# Altium schematic symbol library SCH - MCU - INFINEON - INFINEON MB9BF567RBGL BGA-144.SchLib: 1 symbol
Pins are listed as number, name and electrical type; pins without a type are passive.

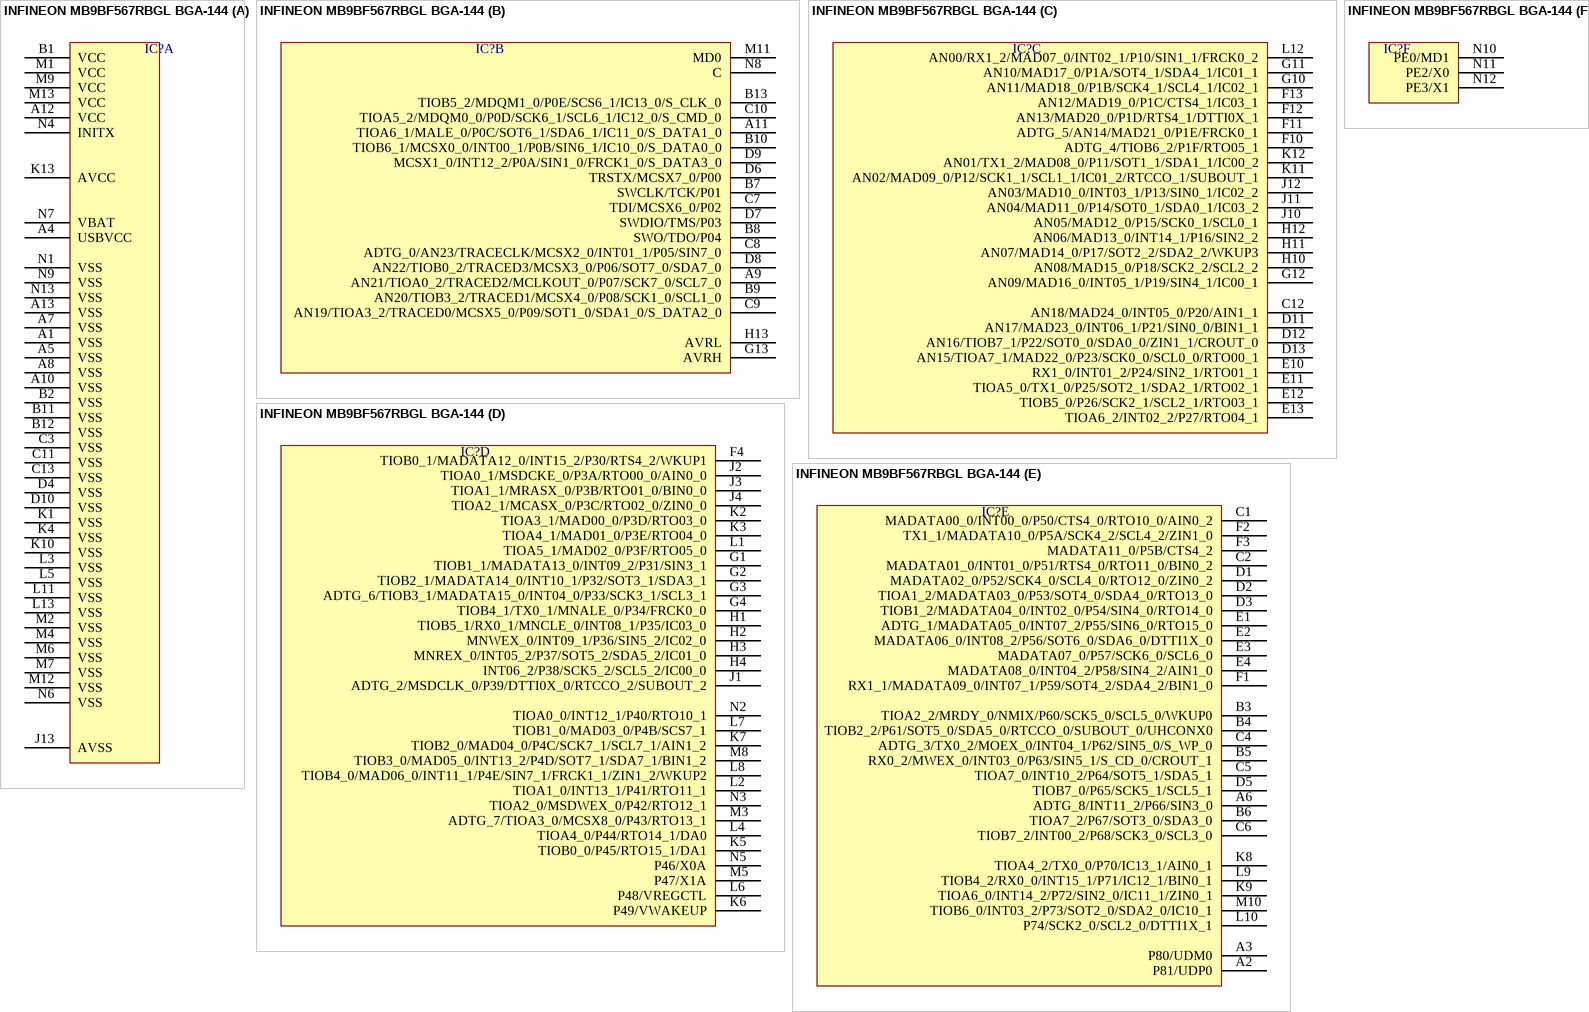
[diagram p0: symbol INFINEON MB9BF567RBGL BGA-144]

## INFINEON MB9BF567RBGL BGA-144
designator IC?  (value not drawn)
part A pins: A1 VSS, A4 USBVCC, A5 VSS, A7 VSS, A8 VSS, A10 VSS, A12 VCC, A13 VSS, B1 VCC, B2 VSS, B11 VSS, B12 VSS, C3 VSS, C11 VSS, C13 VSS, D4 VSS, D10 VSS, J13 AVSS, K1 VSS, K4 VSS, K10 VSS, K13 AVCC, L3 VSS, L5 VSS, L11 VSS, L13 VSS, M1 VCC, M2 VSS, M4 VSS, M6 VSS, M7 VSS, M9 VCC, M12 VSS, M13 VCC, N1 VSS, N4 INITX, N6 VSS, N7 VBAT, N9 VSS, N13 VSS
part B pins: A9 AN21/TIOA0_2/TRACED2/MCLKOUT_0/P07/SCK7_0/SCL7_0, A11 TIOA6_1/MALE_0/P0C/SOT6_1/SDA6_1/IC11_0/S_DATA1_0, B7 SWCLK/TCK/P01, B8 SWO/TDO/P04, B9 AN20/TIOB3_2/TRACED1/MCSX4_0/P08/SCK1_0/SCL1_0, B10 TIOB6_1/MCSX0_0/INT00_1/P0B/SIN6_1/IC10_0/S_DATA0_0, B13 TIOB5_2/MDQM1_0/P0E/SCS6_1/IC13_0/S_CLK_0, C7 TDI/MCSX6_0/P02, C8 ADTG_0/AN23/TRACECLK/MCSX2_0/INT01_1/P05/SIN7_0, C9 AN19/TIOA3_2/TRACED0/MCSX5_0/P09/SOT1_0/SDA1_0/S_DATA2_0, C10 TIOA5_2/MDQM0_0/P0D/SCK6_1/SCL6_1/IC12_0/S_CMD_0, D6 TRSTX/MCSX7_0/P00, D7 SWDIO/TMS/P03, D8 AN22/TIOB0_2/TRACED3/MCSX3_0/P06/SOT7_0/SDA7_0, D9 MCSX1_0/INT12_2/P0A/SIN1_0/FRCK1_0/S_DATA3_0, G13 AVRH, H13 AVRL, M11 MD0, N8 C
part C pins: C12 AN18/MAD24_0/INT05_0/P20/AIN1_1, D11 AN17/MAD23_0/INT06_1/P21/SIN0_0/BIN1_1, D12 AN16/TIOB7_1/P22/SOT0_0/SDA0_0/ZIN1_1/CROUT_0, D13 AN15/TIOA7_1/MAD22_0/P23/SCK0_0/SCL0_0/RTO00_1, E10 RX1_0/INT01_2/P24/SIN2_1/RTO01_1, E11 TIOA5_0/TX1_0/P25/SOT2_1/SDA2_1/RTO02_1, E12 TIOB5_0/P26/SCK2_1/SCL2_1/RTO03_1, E13 TIOA6_2/INT02_2/P27/RTO04_1, F10 ADTG_4/TIOB6_2/P1F/RTO05_1, F11 ADTG_5/AN14/MAD21_0/P1E/FRCK0_1, F12 AN13/MAD20_0/P1D/RTS4_1/DTTI0X_1, F13 AN12/MAD19_0/P1C/CTS4_1/IC03_1, G10 AN11/MAD18_0/P1B/SCK4_1/SCL4_1/IC02_1, G11 AN10/MAD17_0/P1A/SOT4_1/SDA4_1/IC01_1, G12 AN09/MAD16_0/INT05_1/P19/SIN4_1/IC00_1, H10 AN08/MAD15_0/P18/SCK2_2/SCL2_2, H11 AN07/MAD14_0/P17/SOT2_2/SDA2_2/WKUP3, H12 AN06/MAD13_0/INT14_1/P16/SIN2_2, J10 AN05/MAD12_0/P15/SCK0_1/SCL0_1, J11 AN04/MAD11_0/P14/SOT0_1/SDA0_1/IC03_2, J12 AN03/MAD10_0/INT03_1/P13/SIN0_1/IC02_2, K11 AN02/MAD09_0/P12/SCK1_1/SCL1_1/IC01_2/RTCCO_1/SUBOUT_1, K12 AN01/TX1_2/MAD08_0/P11/SOT1_1/SDA1_1/IC00_2, L12 AN00/RX1_2/MAD07_0/INT02_1/P10/SIN1_1/FRCK0_2
part D pins: F4 TIOB0_1/MADATA12_0/INT15_2/P30/RTS4_2/WKUP1, G1 TIOB1_1/MADATA13_0/INT09_2/P31/SIN3_1, G2 TIOB2_1/MADATA14_0/INT10_1/P32/SOT3_1/SDA3_1, G3 ADTG_6/TIOB3_1/MADATA15_0/INT04_0/P33/SCK3_1/SCL3_1, G4 TIOB4_1/TX0_1/MNALE_0/P34/FRCK0_0, H1 TIOB5_1/RX0_1/MNCLE_0/INT08_1/P35/IC03_0, H2 MNWEX_0/INT09_1/P36/SIN5_2/IC02_0, H3 MNREX_0/INT05_2/P37/SOT5_2/SDA5_2/IC01_0, H4 INT06_2/P38/SCK5_2/SCL5_2/IC00_0, J1 ADTG_2/MSDCLK_0/P39/DTTI0X_0/RTCCO_2/SUBOUT_2, J2 TIOA0_1/MSDCKE_0/P3A/RTO00_0/AIN0_0, J3 TIOA1_1/MRASX_0/P3B/RTO01_0/BIN0_0, J4 TIOA2_1/MCASX_0/P3C/RTO02_0/ZIN0_0, K2 TIOA3_1/MAD00_0/P3D/RTO03_0, K3 TIOA4_1/MAD01_0/P3E/RTO04_0, K5 TIOB0_0/P45/RTO15_1/DA1, K6 P49/VWAKEUP, K7 TIOB2_0/MAD04_0/P4C/SCK7_1/SCL7_1/AIN1_2, L1 TIOA5_1/MAD02_0/P3F/RTO05_0, L2 TIOA1_0/INT13_1/P41/RTO11_1, L4 TIOA4_0/P44/RTO14_1/DA0, L6 P48/VREGCTL, L7 TIOB1_0/MAD03_0/P4B/SCS7_1, L8 TIOB4_0/MAD06_0/INT11_1/P4E/SIN7_1/FRCK1_1/ZIN1_2/WKUP2, M3 ADTG_7/TIOA3_0/MCSX8_0/P43/RTO13_1, M5 P47/X1A, M8 TIOB3_0/MAD05_0/INT13_2/P4D/SOT7_1/SDA7_1/BIN1_2, N2 TIOA0_0/INT12_1/P40/RTO10_1, N3 TIOA2_0/MSDWEX_0/P42/RTO12_1, N5 P46/X0A
part E pins: A2 P81/UDP0, A3 P80/UDM0, A6 ADTG_8/INT11_2/P66/SIN3_0, B3 TIOA2_2/MRDY_0/NMIX/P60/SCK5_0/SCL5_0/WKUP0, B4 TIOB2_2/P61/SOT5_0/SDA5_0/RTCCO_0/SUBOUT_0/UHCONX0, B5 RX0_2/MWEX_0/INT03_0/P63/SIN5_1/S_CD_0/CROUT_1, B6 TIOA7_2/P67/SOT3_0/SDA3_0, C1 MADATA00_0/INT00_0/P50/CTS4_0/RTO10_0/AIN0_2, C2 MADATA01_0/INT01_0/P51/RTS4_0/RTO11_0/BIN0_2, C4 ADTG_3/TX0_2/MOEX_0/INT04_1/P62/SIN5_0/S_WP_0, C5 TIOA7_0/INT10_2/P64/SOT5_1/SDA5_1, C6 TIOB7_2/INT00_2/P68/SCK3_0/SCL3_0, D1 MADATA02_0/P52/SCK4_0/SCL4_0/RTO12_0/ZIN0_2, D2 TIOA1_2/MADATA03_0/P53/SOT4_0/SDA4_0/RTO13_0, D3 TIOB1_2/MADATA04_0/INT02_0/P54/SIN4_0/RTO14_0, D5 TIOB7_0/P65/SCK5_1/SCL5_1, E1 ADTG_1/MADATA05_0/INT07_2/P55/SIN6_0/RTO15_0, E2 MADATA06_0/INT08_2/P56/SOT6_0/SDA6_0/DTTI1X_0, E3 MADATA07_0/P57/SCK6_0/SCL6_0, E4 MADATA08_0/INT04_2/P58/SIN4_2/AIN1_0, F1 RX1_1/MADATA09_0/INT07_1/P59/SOT4_2/SDA4_2/BIN1_0, F2 TX1_1/MADATA10_0/P5A/SCK4_2/SCL4_2/ZIN1_0, F3 MADATA11_0/P5B/CTS4_2, K8 TIOA4_2/TX0_0/P70/IC13_1/AIN0_1, K9 TIOA6_0/INT14_2/P72/SIN2_0/IC11_1/ZIN0_1, L9 TIOB4_2/RX0_0/INT15_1/P71/IC12_1/BIN0_1, L10 P74/SCK2_0/SCL2_0/DTTI1X_1, M10 TIOB6_0/INT03_2/P73/SOT2_0/SDA2_0/IC10_1
part F pins: N10 PE0/MD1, N11 PE2/X0, N12 PE3/X1